# Altium integrated library FSC Video Generator Circuit.IntLib: 4 symbols
Pins are listed as number, name and electrical type; pins without a type are passive.

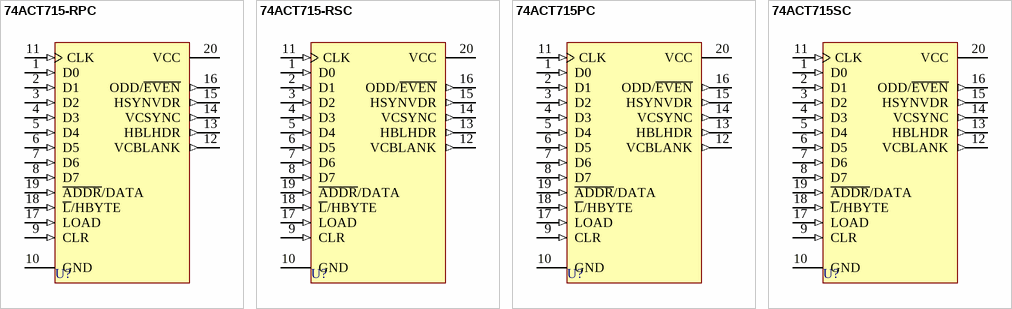
[diagram p0: symbols 74ACT715-RPC to 74ACT715SC]

## 74ACT715-RPC
designator U?
Programmable Video Sync Generator; Published: 17-Jul-2002; LatestRevisionDate: 04-Mar-2005; LatestRevisionNote: Stylized 3D Model Added.; DatasheetVersion: Dec-1998; PackageVersion: 2000; PackageReference: N20A; Publisher: Altium Limited; PackageDescription: DIP; 20 Leads; Row Spacing 7.62 mm; Pitch 2.54 mm; Code_JEDEC: MS-001-AD; ComponentLink1Description: Manufacturer Link; ComponentLink1URL: http://www.fairchildsemi.com/; ComponentLink2Description: Datasheet; ComponentLink2URL: http://www.fairchildsemi.com/ds/74%2F74ACT715.pdf
footprint N20A (DIP; 20 Leads; Row Spacing 7.62 mm; Pitch 2.54 mm)
3D model N20A (DIP; 20 Leads; Row Spacing 7.62 mm; Pitch 2.54 mm)
signal-integrity model 74ACT715-RPC
pins: 1 D0 (in), 2 D1 (in), 3 D2 (in), 4 D3 (in), 5 D4 (in), 6 D5 (in), 7 D6 (in), 8 D7 (in), 9 CLR (in), 10 GND (power), 11 CLK (in), 12 VCBLANK (out), 13 HBLHDR (out), 14 VCSYNC (out), 15 HSYNVDR (out), 16 ODD/~{EVEN} (out), 17 LOAD (in), 18 ~{L}/HBYTE (in), 19 ~{ADDR}/DATA (in), 20 VCC (power)

## 74ACT715-RSC
designator U?
Programmable Video Sync Generator; Published: 17-Jul-2002; LatestRevisionDate: 13-Apr-2006; LatestRevisionNote: IPC-7351 Footprint Added.; DatasheetVersion: Dec-1998; PackageVersion: 2000; PackageReference: M20B; Publisher: Altium Limited; PackageDescription: 20-Pin Small Outline Integrated Circuit 1.27 mm Pitch; Code_JEDEC: MS-013-AC; Code_IPC: SOIC127P1030-20; ComponentLink1Description: Manufacturer Link; ComponentLink1URL: http://www.fairchildsemi.com/; ComponentLink2Description: Datasheet; ComponentLink2URL: http://www.fairchildsemi.com/ds/74%2F74ACT715.pdf
footprint M20B_N (SOIC, 20-Leads, Body 12.8x7.5mm, Pitch 1.27mm, IPC Medium Density)
footprint M20B_L (SOIC, 20-Leads, Body 12.8x7.5mm, Pitch 1.27mm, IPC High Density)
footprint M20B_M (SOIC, 20-Leads, Body 12.8x7.5mm, Pitch 1.27mm, IPC Low Density)
3D model M20B (20-Pin Small Outline Integrated Circuit 1.27 mm Pitch)
signal-integrity model 74ACT715-RSC
pins: 1 D0 (in), 2 D1 (in), 3 D2 (in), 4 D3 (in), 5 D4 (in), 6 D5 (in), 7 D6 (in), 8 D7 (in), 9 CLR (in), 10 GND (power), 11 CLK (in), 12 VCBLANK (out), 13 HBLHDR (out), 14 VCSYNC (out), 15 HSYNVDR (out), 16 ODD/~{EVEN} (out), 17 LOAD (in), 18 ~{L}/HBYTE (in), 19 ~{ADDR}/DATA (in), 20 VCC (power)

## 74ACT715PC
designator U?
Programmable Video Sync Generator; Published: 17-Jul-2002; LatestRevisionDate: 04-Mar-2005; LatestRevisionNote: Stylized 3D Model Added.; DatasheetVersion: Dec-1998; PackageVersion: 2000; PackageReference: N20A; Publisher: Altium Limited; PackageDescription: DIP; 20 Leads; Row Spacing 7.62 mm; Pitch 2.54 mm; Code_JEDEC: MS-001-AD; ComponentLink1Description: Manufacturer Link; ComponentLink1URL: http://www.fairchildsemi.com/; ComponentLink2Description: Datasheet; ComponentLink2URL: http://www.fairchildsemi.com/ds/74%2F74ACT715.pdf
footprint N20A (DIP; 20 Leads; Row Spacing 7.62 mm; Pitch 2.54 mm)
3D model N20A (DIP; 20 Leads; Row Spacing 7.62 mm; Pitch 2.54 mm)
signal-integrity model 74ACT715PC
pins: 1 D0 (in), 2 D1 (in), 3 D2 (in), 4 D3 (in), 5 D4 (in), 6 D5 (in), 7 D6 (in), 8 D7 (in), 9 CLR (in), 10 GND (power), 11 CLK (in), 12 VCBLANK (out), 13 HBLHDR (out), 14 VCSYNC (out), 15 HSYNVDR (out), 16 ODD/~{EVEN} (out), 17 LOAD (in), 18 ~{L}/HBYTE (in), 19 ~{ADDR}/DATA (in), 20 VCC (power)

## 74ACT715SC
designator U?
Programmable Video Sync Generator; Published: 17-Jul-2002; LatestRevisionDate: 13-Apr-2006; LatestRevisionNote: IPC-7351 Footprint Added.; DatasheetVersion: Dec-1998; PackageVersion: 2000; PackageReference: M20B; Publisher: Altium Limited; PackageDescription: 20-Pin Small Outline Integrated Circuit 1.27 mm Pitch; Code_JEDEC: MS-013-AC; Code_IPC: SOIC127P1030-20; ComponentLink1Description: Manufacturer Link; ComponentLink1URL: http://www.fairchildsemi.com/; ComponentLink2Description: Datasheet; ComponentLink2URL: http://www.fairchildsemi.com/ds/74%2F74ACT715.pdf
footprint M20B_N (SOIC, 20-Leads, Body 12.8x7.5mm, Pitch 1.27mm, IPC Medium Density)
footprint M20B_L (SOIC, 20-Leads, Body 12.8x7.5mm, Pitch 1.27mm, IPC High Density)
footprint M20B_M (SOIC, 20-Leads, Body 12.8x7.5mm, Pitch 1.27mm, IPC Low Density)
3D model M20B (20-Pin Small Outline Integrated Circuit 1.27 mm Pitch)
signal-integrity model 74ACT715SC
pins: 1 D0 (in), 2 D1 (in), 3 D2 (in), 4 D3 (in), 5 D4 (in), 6 D5 (in), 7 D6 (in), 8 D7 (in), 9 CLR (in), 10 GND (power), 11 CLK (in), 12 VCBLANK (out), 13 HBLHDR (out), 14 VCSYNC (out), 15 HSYNVDR (out), 16 ODD/~{EVEN} (out), 17 LOAD (in), 18 ~{L}/HBYTE (in), 19 ~{ADDR}/DATA (in), 20 VCC (power)